# Altium footprint library TACTILE SWITCH.PcbLib: 1 footprints
Each footprint in its own frame and in the unit in brackets; x right, y up, seen from the top. Pads: shape width x height; smd on the part's side, far side on the other; paste and mask are expansions set on the pad; w line width, h text height; cw(c..) or ccw(c..) is an arc to the next point about the centre after c.
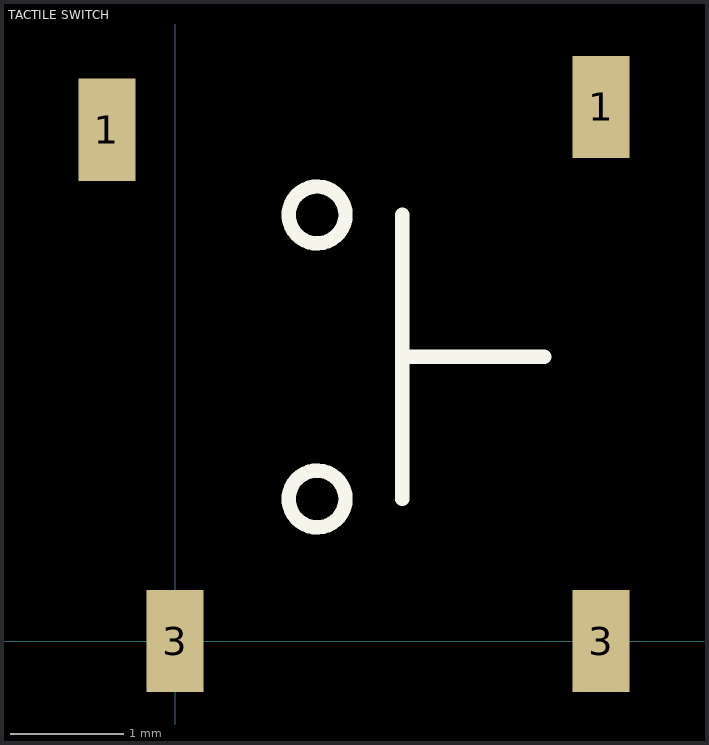
[diagram p0: the footprint, top view; thin cyan lines are the x and y axes]

## TACTILE SWITCH [mm]
height 0.55
pads (4):
  rect 0.5x0.9 smd: 1(-0.6,4.5) 1(3.75,4.7) 3(0,0) 3(3.75,0)
Top Overlay:
  circle w0.127: c1.25,3.75 r0.25
  circle w0.127: c1.25,1.25 r0.25
  lines w0.127: 2,1.25 2,3.75 ; 2,2.5 3.25,2.5
Mechanical 1:
  region: 1.1,1.1